# EAGLE library part TL074_PW_14 (library SensorCape)
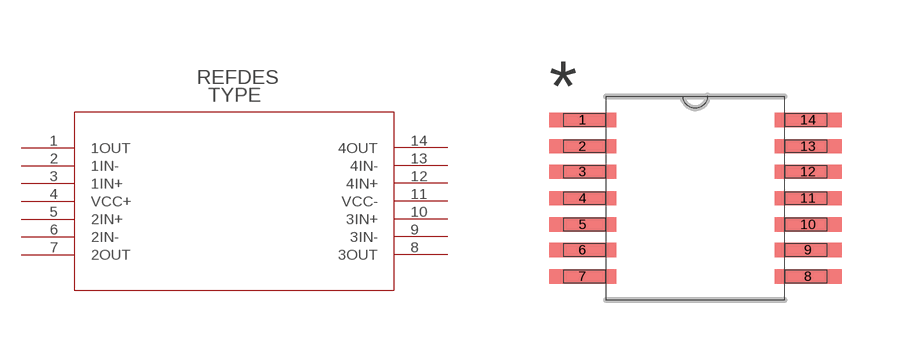
[diagram p13: symbol with the pads of PW14; footprint PW14]

Designator prefix U

## TL074_PW_14  [PW14]
1  1OUT  pas
2  1IN-  pas
3  1IN+  pas
4  VCC+  pas
5  2IN+  pas
6  2IN-  pas
7  2OUT  pas
8  3OUT  pas
9  3IN-  pas
10  3IN+  pas
11  VCC-  pas
12  4IN+  pas
13  4IN-  pas
14  4OUT  pas

## Footprint PW14 (pad centres in mm)
smd 1.676 x 0.356: 1 -2.819,1.956; 2 -2.819,1.295; 3 -2.819,0.66; 4 -2.819,0; 5 -2.819,-0.66; 6 -2.819,-1.295; 7 -2.819,-1.956; 8 2.819,-1.956; 9 2.819,-1.295; 10 2.819,-0.66; 11 2.819,0; 12 2.819,0.66; 13 2.819,1.295; 14 2.819,1.956